# Altium footprint library WE-TI HV.PcbLib: 2 footprints
Each footprint in its own frame and in the unit in brackets; x right, y up, seen from the top. Pads: shape width x height; smd on the part's side, far side on the other; paste and mask are expansions set on the pad; w line width, h text height; cw(c..) or ccw(c..) is an arc to the next point about the centre after c.
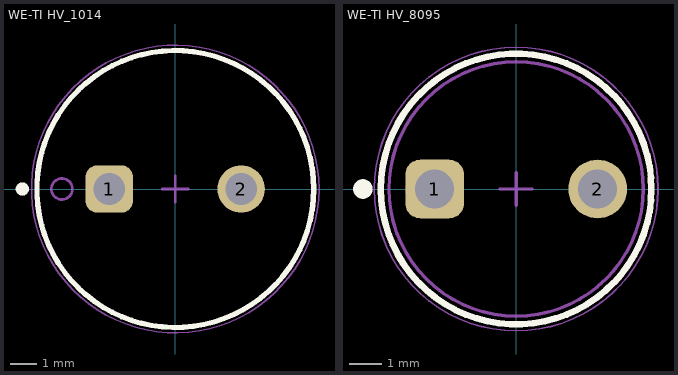
[diagram p0: the footprints below, top view; thin cyan lines are the x and y axes]

## WE-TI HV_1014 [mm] "THT Radial Leaded Wire Wound High Voltage Inductor, body diameter 10.5mm"
height 14.5
pads (2):
  rrect50% 1.8x1.8 hole 1.2: 1(-2.5,0)
  round 1.8 hole 1.2: 2(2.5,0)
Top Overlay:
  circle w0.2: c0,0 r5.25
  circle w0.25: c-5.8,0 r0.125
Top Assembly:
  circle w0.1: c0,0 r5.25
  circle w0.1: c-4.3,0 r0.4
Top Designator:
  text ".Designator" at -3.647,-0.357 h1
Top 3D Body:
  circle w0.1: c0,0 r5.25
  circle w0.1: c-4.3,0 r0.4
Top Courtyard:
  circle w0.05: c0,0 r5.45
Top Component Center:
  lines w0.1: -0.5,0 0.5,0 ; 0,-0.5 0,0.5
3D body "1014.stp": height 14.1, standoff -3.45, extent -4.998,-5 4.997,5

## WE-TI HV_8095 [mm] "THT Radial Leaded Wire Wound High Voltage Inductor, body diameter 7.8mm"
height 10
pads (2):
  rrect50% 1.8x1.8 hole 1.2: 1(-2.5,0)
  round 1.8 hole 1.2: 2(2.5,0)
Top Overlay:
  circle w0.3: c-4.7,0 r0.15
  circle w0.2: c0,0 r4.15
Top Assembly:
  circle w0.1: c0,0 r3.9
  circle w0.1: c-2.95,-0.01 r0.4
Top Designator:
  text ".Designator" at -3.647,-0.357 h1
Top 3D Body:
  circle w0.1: c0,0 r3.9
  circle w0.1: c-2.95,-0.01 r0.4
Top Courtyard:
  circle w0.05: c0,0 r4.35
Top Component Center:
  lines w0.1: -0.5,0 0.5,0 ; 0,-0.5 0,0.5
3D body "STEP-WE-TI-HV-8095-rev1.stp": height 9.55, standoff -4.95, extent -5.516,-5.516 5.514,5.515